# Altium schematic symbol library led.SchLib: 6 symbols
Pins are listed as number, name and electrical type; pins without a type are passive.

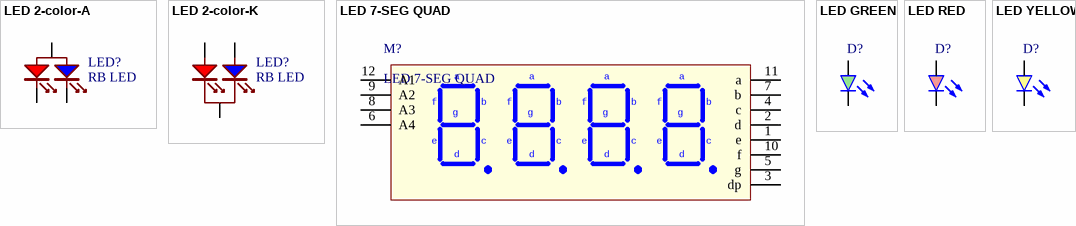
[diagram p0: symbols LED 2-color-A to LED YELLOW]

## LED 2-color-A
designator LED?, comment RB LED
Bicolor RB 3mm LED
footprint LED-BICOLOR-3MM (Diode, Axial; Body 5.2 x 2.7 mm (LxDia. max), Lead Dia. 0.86 mm (max))
pins: 1 K1 "Anode", 2 A "Cathode", 3 K2 "Anode"

## LED 2-color-K
designator LED?, comment RB LED
Bicolor RB 3mm LED
footprint LED-BICOLOR-3MM (Diode, Axial; Body 5.2 x 2.7 mm (LxDia. max), Lead Dia. 0.86 mm (max))
pins: 1 AR "Anode", 2 K "Cathode", 3 AB "Anode"

## LED 7-SEG QUAD
designator M?
LED 7-SEG 0.56 QUAD RED
footprint LED/7SEG/0.56/QUAD
pins: 1 e, 2 d, 3 dp, 4 c, 5 g, 6 A4, 7 b, 8 A3, 9 A2, 10 f, 11 a, 12 A1

## LED GREEN
designator D?  (value not drawn)
Typical LED 3-pin 2-color
footprint LED 10MM - GREEN
pins: 1 A, 2 K

## LED RED
designator D?  (value not drawn)
Typical LED 3-pin 2-color
footprint LED 10MM - RED
pins: 1 A, 2 K

## LED YELLOW
designator D?  (value not drawn)
Typical LED 3-pin 2-color
footprint LED 10MM - YELLOW
pins: 1 A, 2 K